# Altium schematic symbol library ADS7953.Schlib: 1 symbol
Pins are listed as number, name and electrical type; pins without a type are passive.

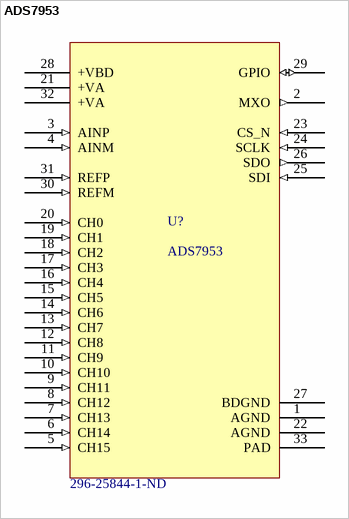
[diagram p0: symbol ADS7953]

## ADS7953
designator U?  Supplier Part Number 1: 296-25844-1-ND
12 bit, 16 channel ADC; Supplier 1: Digi-Key
footprint QFN50P500X500X100-33 (QFN + Pitch P + Body With X Body Length X Height - #Pins)
pins: 1 AGND (power), 2 MXO (out), 3 AINP (in), 4 AINM (in), 5 CH15 (in), 6 CH14 (in), 7 CH13 (in), 8 CH12 (in), 9 CH11 (in), 10 CH10 (in), 11 CH9 (in), 12 CH8 (in), 13 CH7 (in), 14 CH6 (in), 15 CH5 (in), 16 CH4 (in), 17 CH3 (in), 18 CH2 (in), 19 CH1 (in), 20 CH0 (in), 21 +VA (power), 22 AGND (power), 23 CS_N (in), 24 SCLK (in), 25 SDI (in), 26 SDO (out), 27 BDGND (power), 28 +VBD (power), 29 GPIO (io), 30 REFM (in), 31 REFP (in), 32 +VA (power), 33 PAD (power)